# EAGLE library part AAT1217 (library regulators)
IC REG BST ADJ 0.75A SYNC TSOT23 Boost Switching Regulator IC Positive Adjustable 2.5V 1 Output 750mA (Switch) SOT-23-6 Thin, TSOT-23-6
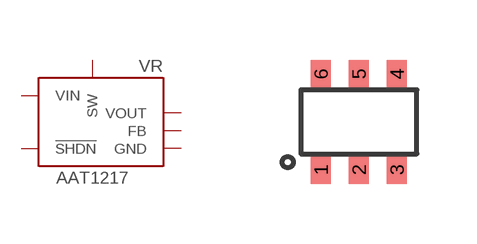
[diagram p1: symbol with the pads of TSOT23-6; footprint TSOT23-6]

Designator prefix VR

## AAT1217-1.2 (DIGIKEY: 863-1495-1-ND; MANUFACTURER: Skyworks Solutions Inc; MPN: AAT1217ICA-1.2-T1)  [TSOT23-6]
1  SW
2  GND
3  FB
4  !SHDN
5  VOUT
6  VIN

## Footprint TSOT23-6 (pad centres in mm)
TSOT23-6 drawn from http://www.skyworksinc.com/uploads/documents/AAT1217_202050B.pdf Digi-Key Part 863-1495-1-ND
smd 0.5 x 0.7: 1 -0.95,-1.2; 2 0,-1.2; 3 0.95,-1.2; 4 0.95,1.2; 5 0,1.2; 6 -0.95,1.2